# Altium schematic symbol library WEST_Schematic_Library.SchLib: 53 symbols (part 2 of 3)
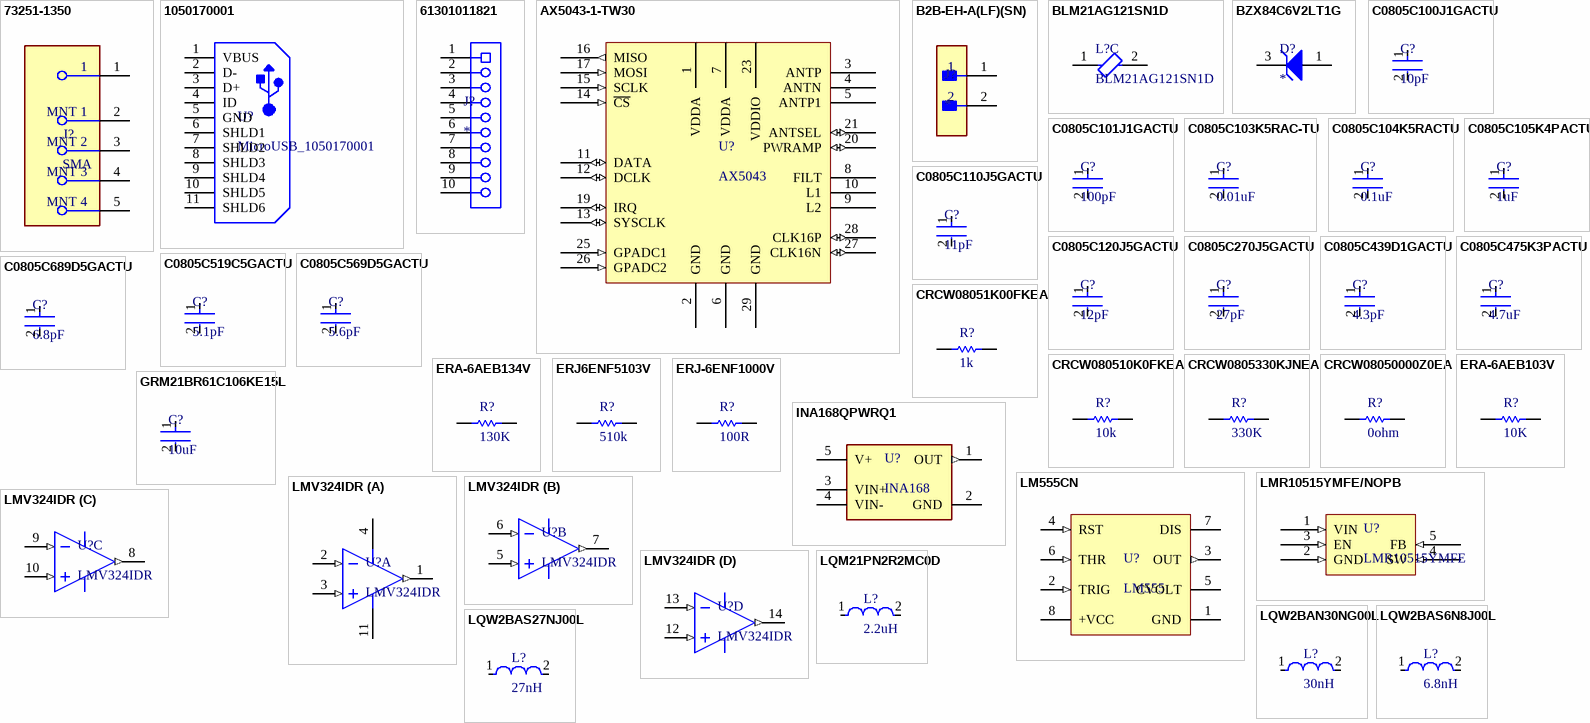
[diagram p2: symbols 73251-1350 to LQW2BAS27NJ00L]

## CRCW080510K0FKEA
designator R?, comment 10k
Res Thick Film 0805 10K Ohm 1% 1/8W ±100ppm/°C Molded SMD Paper T/R; Manufacturer: Vishay; Manufacturer Part Number: CRCW080510K0FKEA; Resistance: 10kR; Power Rating: 125mW; Voltage Rating: 150V; Supplier 1: Digi-Key; RoHS: Yes; Category: Chip SMD Resistors; Pricing 1: 1=0.10000, 10=0.06700, 100=0.02710, 1000=0.01219, 2500=0.01058 (USD); Case/Package: 0805; Case Code (Imperial): 0805; Case Code (Metric): 2012; Contact Plating: Tin; Size Code: 0805; Weight: 0.000194oz; Min Operating Temperature: -55°C; Max Operating Temperature: 155°C; Tolerance: 1%; Packaging: Tape and Reel; Resistor Type: Thick Film; Temperature Coefficient: 100ppm/°C; Termination: SMD/SMT; Series: CRCW; Max Power Dissipation: 125mW; Number of Terminations: 2; Resistance Tolerance: 1%; Voltage Rating (DC): 150V; Package Quantity: 5000; Technology: THICK FILM; Features: Automotive AEC-Q200; Construction: Rectangular; Length: 2mm; Width: 1.25mm; Height: 0.45mm; Depth: 1.25mm; Radiation Hardening: No; RoHS Compliant: Yes; REACH SVHC: Unknown; Military Standard: Not; Lead Free: Lead Free; ComponentLink1URL: https://datasheet.ciiva.com/11808/0900766b80d98b26-11808216.pdf?src-supplier=RSComponents; ComponentLink1Description: https://datasheet.ciiva.com/11808/0900766b80d98b26-11808216.pdf?src-supplier=RSComponents; ComponentLink2URL: https://datasheet.ciiva.com/46394/1720486-46394381.pdf?src-supplier=Element14; ComponentLink2Description: https://datasheet.ciiva.com/46394/1720486-46394381.pdf?src-supplier=Element14; ComponentLink3URL: https://datasheet.ciiva.com/16719/70201119-16719082.pdf?src-supplier=Allied+Electronics; ComponentLink3Description: https://datasheet.ciiva.com/16719/70201119-16719082.pdf?src-supplier=Allied+Electronics; ComponentLink4URL: https://datasheet.ciiva.com/16755/70201119-16755389.pdf?src-supplier=Allied+Electronics; ComponentLink4Description: https://datasheet.ciiva.com/16755/70201119-16755389.pdf?src-supplier=Allied+Electronics; ComponentLink5URL: https://datasheet.ciiva.com/5547/dcrcwe3-109170-5547559.pdf?src-supplier=Mouser; ComponentLink5Description: https://datasheet.ciiva.com/5547/dcrcwe3-109170-5547559.pdf?src-supplier=Mouser; ComponentLink6URL: https://datasheet.ciiva.com/8337/dcrcwe3-8337773.pdf?src-supplier=Avnet; ComponentLink6Description: https://datasheet.ciiva.com/8337/dcrcwe3-8337773.pdf?src-supplier=Avnet; ComponentLink7URL: https://datasheet.ciiva.com/16199/dcrcwe3-16199086.pdf?src-supplier=Future+Electronics; ComponentLink7Description: https://datasheet.ciiva.com/16199/dcrcwe3-16199086.pdf?src-supplier=Future+Electronics; ComponentLink8URL: https://datasheet.ciiva.com/8337/dcrcwe3-8337774.pdf?src-supplier=Avnet; ComponentLink8Description: https://datasheet.ciiva.com/8337/dcrcwe3-8337774.pdf?src-supplier=Avnet; Supplier Part Number 1: 541-10.0KCDKR-ND
footprint FP-C0805C-DN-IPC_A
pins: 1, 2

## CRCW0805330KJNEA
designator R?, comment 330K
Res Thick Film 0805 330K Ohm 5% 1/8W ±200ppm/°C Molded SMD SMD Paper T/R; Manufacturer: Vishay Dale; Manufacturer Part Number: CRCW0805330KJNEA; Voltage Rating: 150V; Resistance: 330kR; Power Rating: 125mW; Supplier 1: Digi-Key; RoHS: Yes; Category: Chip SMD Resistors; Pricing 1: 1=0.10000, 10=0.05000, 100=0.02040, 1000=0.00914, 2500=0.00794 (USD); Case/Package: 0805; Case Code (Imperial): 0805; Case Code (Metric): 2012; Contact Plating: Tin; Weight: 0.000194oz; Size Code: 0805; Min Operating Temperature: -55°C; Max Operating Temperature: 155°C; Packaging: Tape and Reel; Tolerance: 5%; Package Quantity: 1; Termination: SMD/SMT; Series: CRCW; Construction: Rectangular; Resistor Type: Thick Film; Number of Terminations: 2; Max Power Dissipation: 125mW; Temperature Coefficient: 200ppm/°C; Voltage Rating (DC): 150V; Resistance Tolerance: 5%; Features: Automotive AEC-Q200; Technology: THICK FILM; Length: 2mm; Width: 1.25mm; Height: 0.02inch; Depth: 1.25mm; Radiation Hardening: No; REACH SVHC: Unknown; Military Standard: Not; RoHS Compliant: Yes; Lead Free: Lead Free; ComponentLink1URL: https://datasheet.ciiva.com/2493/dcrcwe3-2493836.pdf?src-supplier=Digi-Key; ComponentLink1Description: https://datasheet.ciiva.com/2493/dcrcwe3-2493836.pdf?src-supplier=Digi-Key; ComponentLink2URL: https://datasheet.ciiva.com/2493/dcrcwe3-2493837.pdf?src-supplier=Digi-Key; ComponentLink2Description: https://datasheet.ciiva.com/2493/dcrcwe3-2493837.pdf?src-supplier=Digi-Key; ComponentLink3URL: https://datasheet.ciiva.com/5561/dcrcwe3-109170-5561991.pdf?src-supplier=Mouser; ComponentLink3Description: https://datasheet.ciiva.com/5561/dcrcwe3-109170-5561991.pdf?src-supplier=Mouser; ComponentLink4URL: https://datasheet.ciiva.com/2493/dcrcwe3-2493835.pdf?src-supplier=Digi-Key; ComponentLink4Description: https://datasheet.ciiva.com/2493/dcrcwe3-2493835.pdf?src-supplier=Digi-Key; ComponentLink5URL: https://datasheet.ciiva.com/46391/1807946-46391932.pdf?src-supplier=Element14; ComponentLink5Description: https://datasheet.ciiva.com/46391/1807946-46391932.pdf?src-supplier=Element14; ComponentLink6URL: https://datasheet.ciiva.com/16213/dcrcwe3-16213979.pdf?src-supplier=Future+Electronics; ComponentLink6Description: https://datasheet.ciiva.com/16213/dcrcwe3-16213979.pdf?src-supplier=Future+Electronics; ComponentLink7URL: https://datasheet.ciiva.com/16778/70201119-16778586.pdf?src-supplier=Allied+Electronics; ComponentLink7Description: https://datasheet.ciiva.com/16778/70201119-16778586.pdf?src-supplier=Allied+Electronics; Supplier Part Number 1: 541-330KACT-ND; Stock 1: 1
footprint FP-C0805C-DN-IPC_A
pins: 1, 2

## CRCW08050000Z0EA
designator R?, comment 0ohm
CRCW Series 0805 0.125 W 0 Ohm Jumper Surface Mount Thick Film Chip Resistor; Manufacturer: Vishay; Manufacturer Part Number: CRCW08050000Z0EA; Power Rating: 125mW; Temperature Coefficient: 100ppm/°C; Voltage Rating: 150V; Tolerance: 1%; Resistance: 0mR; Supplier 1: Digi-Key; RoHS: Yes; Category: Chip SMD Resistors; Pricing 1: 1=0.10000, 10=0.04400, 25=0.03160, 50=0.02400, 100=0.01770, 250=0.01352, 500=0.01080, 1000=0.00795 (USD); Case/Package: 0805; Case Code (Imperial): 0805; Case Code (Metric): 2012; Contact Plating: Tin,Lead; Size Code: 0805; Weight: 0.000194oz; Min Operating Temperature: -55°C; Max Operating Temperature: 155°C; Packaging: Tape and Reel; Resistor Type: Thick Film; Series: CRCW; Termination: SMD/SMT; Package Quantity: 1; Number of Terminations: 2; Max Power Dissipation: 125mW; Construction: Rectangular; Voltage Rating (DC): 150V; Features: Automotive AEC-Q200; Technology: THICK FILM; Resistance Tolerance: 1%; Length: 2mm; Width: 1.25mm; Height: 0.45mm; Depth: 1.25mm; Radiation Hardening: No; RoHS Compliant: Yes; REACH SVHC: Unknown; Lead Free: Lead Free; Military Standard: Not; ComponentLink1URL: https://datasheet.ciiva.com/11811/0900766b80d98b26-11811304.pdf?src-supplier=RSComponents; ComponentLink1Description: https://datasheet.ciiva.com/11811/0900766b80d98b26-11811304.pdf?src-supplier=RSComponents; ComponentLink2URL: https://datasheet.ciiva.com/2463/dcrcwe3-2463037.pdf?src-supplier=Digi-Key; ComponentLink2Description: https://datasheet.ciiva.com/2463/dcrcwe3-2463037.pdf?src-supplier=Digi-Key; ComponentLink3URL: https://datasheet.ciiva.com/2463/dcrcwe3-2463038.pdf?src-supplier=Digi-Key; ComponentLink3Description: https://datasheet.ciiva.com/2463/dcrcwe3-2463038.pdf?src-supplier=Digi-Key; ComponentLink4URL: https://datasheet.ciiva.com/2463/dcrcwe3-2463039.pdf?src-supplier=Digi-Key; ComponentLink4Description: https://datasheet.ciiva.com/2463/dcrcwe3-2463039.pdf?src-supplier=Digi-Key; ComponentLink5URL: https://datasheet.ciiva.com/5543/dcrcwe3-109170-5543096.pdf?src-supplier=Mouser; ComponentLink5Description: https://datasheet.ciiva.com/5543/dcrcwe3-109170-5543096.pdf?src-supplier=Mouser; ComponentLink6URL: https://datasheet.ciiva.com/16389/dcrcwe3-16389338.pdf?src-supplier=Future+Electronics; ComponentLink6Description: https://datasheet.ciiva.com/16389/dcrcwe3-16389338.pdf?src-supplier=Future+Electronics; ComponentLink7URL: https://datasheet.ciiva.com/7841/1697337-7841629.pdf?src-supplier=Element14; ComponentLink7Description: https://datasheet.ciiva.com/7841/1697337-7841629.pdf?src-supplier=Element14; ComponentLink8URL: https://datasheet.ciiva.com/7841/1720486-7841839.pdf?src-supplier=Element14; ComponentLink8Description: https://datasheet.ciiva.com/7841/1720486-7841839.pdf?src-supplier=Element14; ComponentLink9URL: https://datasheet.ciiva.com/26314/fld-crcw-e3-data-en-26314630.pdf?src-supplier=Distrelec; ComponentLink9Description: https://datasheet.ciiva.com/26314/fld-crcw-e3-data-en-26314630.pdf?src-supplier=Distrelec; ComponentLink10URL: https://datasheet.ciiva.com/16719/70201119-16719706.pdf?src-supplier=Allied+Electronics; ComponentLink10Description: https://datasheet.ciiva.com/16719/70201119-16719706.pdf?src-supplier=Allied+Electronics; Supplier Part Number 1: 541-0.0ADKR-ND
footprint FP-C0805C-DN-IPC_A
pins: 1, 2

## ERA-6AEB103V
designator R?, comment 10K
高精度、低温漂贴片电阻 10KΩ ±0.1% 1/8W ±25ppm/℃ 0805; Manufacturer: Panasonic; Manufacturer Part Number: ERA-6AEB103V; Voltage Rating: 100V; Resistance: 10kR; Power Rating: 125mW; Temperature Coefficient: 25ppm/°C; Supplier 1: Digi-Key; RoHS: Yes; Category: Chip SMD Resistors; Mount: Surface Mount; Case/Package: 0805; Number of Pins: 2; Case Code (Metric): 2012; Case Code (Imperial): 0805; Contact Plating: Tin; Min Operating Temperature: -55°C; Max Operating Temperature: 155°C; Packaging: Tape and Reel; Tolerance: 0.1%; Resistor Type: Thin Film; Voltage Rating (DC): 100V; Package Quantity: 5000; Termination: SMD/SMT; Number of Terminations: 2; Max Power Dissipation: 125mW; Series: ERA-6A; Construction: Rectangular; Resistance Tolerance: 0.1%; Technology: THIN FILM; Working Voltage: 100V; Length: 2mm; Width: 1.25mm; Height: 0.5mm; Depth: 1.25mm; Radiation Hardening: No; REACH SVHC: No SVHC; RoHS Compliant: Yes; Military Standard: Not; Lead Free: Lead Free; ComponentLink1URL: https://datasheet.ciiva.com/11810/0900766b80beefcc-11810466.pdf?src-supplier=RSComponents; ComponentLink1Description: https://datasheet.ciiva.com/11810/0900766b80beefcc-11810466.pdf?src-supplier=RSComponents; ComponentLink2URL: https://datasheet.ciiva.com/26335/453339-da-01-en-widerstand-0805-era-26335701.pdf?src-supplier=Conrad; ComponentLink2Description: https://datasheet.ciiva.com/26335/453339-da-01-en-widerstand-0805-era-26335701.pdf?src-supplier=Conrad; ComponentLink3URL: https://datasheet.ciiva.com/43455/485442-43455269.pdf?src-supplier=Farnell; ComponentLink3Description: https://datasheet.ciiva.com/43455/485442-43455269.pdf?src-supplier=Farnell; ComponentLink4URL: https://datasheet.ciiva.com/7830/485442-7830639.pdf?src-supplier=Element14; ComponentLink4Description: https://datasheet.ciiva.com/7830/485442-7830639.pdf?src-supplier=Element14; ComponentLink5URL: https://datasheet.ciiva.com/7830/485442-7830638.pdf?src-supplier=Element14; ComponentLink5Description: https://datasheet.ciiva.com/7830/485442-7830638.pdf?src-supplier=Element14; ComponentLink6URL: https://datasheet.ciiva.com/48529/era-eng-tds-48529783.pdf?src-supplier=Distrelec; ComponentLink6Description: https://datasheet.ciiva.com/48529/era-eng-tds-48529783.pdf?src-supplier=Distrelec; ComponentLink7URL: https://datasheet.ciiva.com/7830/485442-7830637.pdf?src-supplier=Element14; ComponentLink7Description: https://datasheet.ciiva.com/7830/485442-7830637.pdf?src-supplier=Element14; ComponentLink8URL: https://datasheet.ciiva.com/22785/485442-22785935.pdf?src-supplier=Farnell; ComponentLink8Description: https://datasheet.ciiva.com/22785/485442-22785935.pdf?src-supplier=Farnell; ComponentLink9URL: https://datasheet.ciiva.com/28513/485442-28513862.pdf?src-supplier=Element14; ComponentLink9Description: https://datasheet.ciiva.com/28513/485442-28513862.pdf?src-supplier=Element14; ComponentLink10URL: https://datasheet.ciiva.com/24072/aoa0000ce26-197354-24072839.pdf?src-supplier=Mouser; ComponentLink10Description: https://datasheet.ciiva.com/24072/aoa0000ce26-197354-24072839.pdf?src-supplier=Mouser; ComponentLink11URL: https://datasheet.ciiva.com/16776/70068849-16776328.pdf?src-supplier=Allied+Electronics; ComponentLink11Description: https://datasheet.ciiva.com/16776/70068849-16776328.pdf?src-supplier=Allied+Electronics; ComponentLink12URL: https://datasheet.ciiva.com/16762/70068849-16762828.pdf?src-supplier=Allied+Electronics; ComponentLink12Description: https://datasheet.ciiva.com/16762/70068849-16762828.pdf?src-supplier=Allied+Electronics; ComponentLink13URL: https://datasheet.ciiva.com/16200/aoa0000ce26-16200216.pdf?src-supplier=Future+Electronics; ComponentLink13Description: https://datasheet.ciiva.com/16200/aoa0000ce26-16200216.pdf?src-supplier=Future+Electronics; ComponentLink14URL: https://datasheet.ciiva.com/48531/aoa0000ce26-48531095.pdf?src-supplier=Avnet; ComponentLink14Description: https://datasheet.ciiva.com/48531/aoa0000ce26-48531095.pdf?src-supplier=Avnet; Supplier Part Number 1: P10KDACT-ND
footprint FP-C0805C-DN-IPC_A
pins: 1, 2

## ERA-6AEB134V
designator R?, comment 130K
Res Thin Film 0805 130K Ohm 0.1% 1/8W ±25ppm/°C Molded SMD SMD Punched Carrier T/R; Manufacturer: Panasonic; Manufacturer Part Number: ERA-6AEB134V; Resistance: 130kR; Power Rating: 125mW; Voltage Rating: 100V; Supplier 1: Digi-Key; RoHS: Yes; Category: Chip SMD Resistors; Pricing 1: 1=0.36000, 10=0.30100, 100=0.11770, 1000=0.04927, 2500=0.04516 (USD); Mount: Surface Mount; Case/Package: 0805; Number of Pins: 2; Case Code (Metric): 2012; Case Code (Imperial): 0805; Contact Plating: Tin; Min Operating Temperature: -55°C; Max Operating Temperature: 155°C; Tolerance: 0.1%; Packaging: Tape and Reel; Package Quantity: 1; Resistor Type: Thin Film; Number of Terminations: 2; Temperature Coefficient: 25ppm/°C; Termination: Solder; Max Power Dissipation: 125mW; Series: ERA-6A; Resistance Tolerance: 0.1%; Construction: Rectangular; Voltage Rating (DC): 100V; Features: Automotive AEC-Q200; Technology: THIN FILM; Length: 2mm; Width: 1.25mm; Height: 0.5mm; Depth: 1.25mm; Radiation Hardening: No; REACH SVHC: No SVHC; Military Standard: Not; RoHS Compliant: Yes; Lead Free: Lead Free; ComponentLink1URL: https://datasheet.ciiva.com/26335/453691-da-01-en-widerstand-0805-era-26335728.pdf?src-supplier=Conrad; ComponentLink1Description: https://datasheet.ciiva.com/26335/453691-da-01-en-widerstand-0805-era-26335728.pdf?src-supplier=Conrad; ComponentLink2URL: https://datasheet.ciiva.com/5915/485442-5915198.pdf?src-supplier=Farnell; ComponentLink2Description: https://datasheet.ciiva.com/5915/485442-5915198.pdf?src-supplier=Farnell; ComponentLink3URL: https://datasheet.ciiva.com/46376/485442-46376974.pdf?src-supplier=Element14; ComponentLink3Description: https://datasheet.ciiva.com/46376/485442-46376974.pdf?src-supplier=Element14; ComponentLink4URL: https://datasheet.ciiva.com/7795/485442-7795115.pdf?src-supplier=Element14; ComponentLink4Description: https://datasheet.ciiva.com/7795/485442-7795115.pdf?src-supplier=Element14; ComponentLink5URL: https://datasheet.ciiva.com/22739/485442-22739481.pdf?src-supplier=Element14; ComponentLink5Description: https://datasheet.ciiva.com/22739/485442-22739481.pdf?src-supplier=Element14; ComponentLink6URL: https://datasheet.ciiva.com/24023/aoa0000ce26-197354-24023974.pdf?src-supplier=Mouser; ComponentLink6Description: https://datasheet.ciiva.com/24023/aoa0000ce26-197354-24023974.pdf?src-supplier=Mouser; ComponentLink7URL: https://datasheet.ciiva.com/9185/aoa0000ce26-9185919.pdf?src-supplier=Avnet; ComponentLink7Description: https://datasheet.ciiva.com/9185/aoa0000ce26-9185919.pdf?src-supplier=Avnet; ComponentLink8URL: https://datasheet.ciiva.com/30125/54aoa0000ce26-30125359.pdf?src-supplier=Onlinecomponents.com; ComponentLink8Description: https://datasheet.ciiva.com/30125/54aoa0000ce26-30125359.pdf?src-supplier=Onlinecomponents.com; Supplier Part Number 1: P130KDACT-ND; Stock 1: 57925
footprint FP-C0805C-DN-IPC_A
pins: 1, 2

## ERJ6ENF5103V
designator R?, comment 510k
贴片电阻 510KΩ ±1% 1/8W ±100ppm/℃ 0805; Manufacturer: Panasonic; Manufacturer Part Number: ERJ6ENF5103V; Resistance: 510kR; Power Rating: 125mW; Voltage Rating: 150V; Temperature Coefficient: 100ppm/°C; Supplier 1: Digi-Key; RoHS: Yes; Category: Chip SMD Resistors; Pricing 1: 1=0.10000, 10=0.08900, 100=0.03440, 1000=0.01512, 2500=0.01306 (USD); Mount: Surface Mount; Case/Package: 0805; Case Code (Metric): 2012; Case Code (Imperial): 0805; Contact Plating: Tin; Size Code: 0805; Min Operating Temperature: -55°C; Max Operating Temperature: 155°C; Tolerance: 1%; Packaging: Tape and Reel; Package Quantity: 1; Resistor Type: Thick Film; Number of Terminations: 2; Max Power Dissipation: 125mW; Series: ERJ; Construction: Rectangular; Termination: SMD/SMT; Features: Automotive AEC-Q200; Voltage Rating (DC): 150V; Resistance Tolerance: 1%; Technology: THICK FILM; Length: 2mm; Width: 0.049inch; Height: 0.6mm; Depth: 1.25mm; Radiation Hardening: No; Military Standard: Not; RoHS Compliant: Yes; REACH SVHC: No SVHC; Lead Free: Lead Free; ComponentLink1URL: https://datasheet.ciiva.com/11821/0900766b80f80784-11821669.pdf?src-supplier=RSComponents; ComponentLink1Description: https://datasheet.ciiva.com/11821/0900766b80f80784-11821669.pdf?src-supplier=RSComponents; ComponentLink2URL: https://datasheet.ciiva.com/46375/1678782-46375866.pdf?src-supplier=Element14; ComponentLink2Description: https://datasheet.ciiva.com/46375/1678782-46375866.pdf?src-supplier=Element14; ComponentLink3URL: https://datasheet.ciiva.com/22762/1678782-22762871.pdf?src-supplier=Farnell; ComponentLink3Description: https://datasheet.ciiva.com/22762/1678782-22762871.pdf?src-supplier=Farnell; ComponentLink4URL: https://datasheet.ciiva.com/46375/1678782-46375865.pdf?src-supplier=Element14; ComponentLink4Description: https://datasheet.ciiva.com/46375/1678782-46375865.pdf?src-supplier=Element14; ComponentLink5URL: https://datasheet.ciiva.com/24027/aoa0000ce2-24027049.pdf?src-supplier=Mouser; ComponentLink5Description: https://datasheet.ciiva.com/24027/aoa0000ce2-24027049.pdf?src-supplier=Mouser; ComponentLink6URL: https://datasheet.ciiva.com/9181/aoa0000ce2-9181533.pdf?src-supplier=Avnet; ComponentLink6Description: https://datasheet.ciiva.com/9181/aoa0000ce2-9181533.pdf?src-supplier=Avnet; ComponentLink7URL: https://datasheet.ciiva.com/30195/aoa0000ce2-30195599.pdf?src-supplier=Onlinecomponents.com; ComponentLink7Description: https://datasheet.ciiva.com/30195/aoa0000ce2-30195599.pdf?src-supplier=Onlinecomponents.com; Supplier Part Number 1: P510KCCT-ND; Stock 1: 22956
footprint FP-C0805C-DN-IPC_A
pins: 1, 2

## ERJ-6ENF1000V
designator R?, comment 100R
贴片电阻 100Ω ±1% 1/8W ±100ppm/℃ 0805; Manufacturer: Panasonic; Manufacturer Part Number: ERJ-6ENF1000V; Temperature Coefficient: 100ppm/°C; Max Power Dissipation: 125mW; Voltage Rating: 150V; Supplier 1: Digi-Key; RoHS: Yes; Category: Chip SMD Resistors; Mount: Surface Mount; Case/Package: 0805; Number of Pins: 2; Case Code (Imperial): 0805; Case Code (Metric): 2012; Contact Plating: Tin; Size Code: 0805; Min Operating Temperature: -55°C; Max Operating Temperature: 155°C; Packaging: Tape and Reel; Resistance: 100R; Tolerance: 1%; Resistor Type: Thick Film; Number of Terminations: 2; Series: ERJ; Package Quantity: 1; Features: Automotive AEC-Q200; Termination: SMD/SMT; Construction: Rectangular; Power Rating: 125mW; Voltage Rating (DC): 150V; Resistance Tolerance: 1%; Technology: THICK FILM; Length: 2mm; Width: 1.2mm; Height: 0.6mm; Depth: 1.25mm; Radiation Hardening: No; RoHS Compliant: Yes; Military Standard: Not; Lead Free: Lead Free; REACH SVHC: No SVHC; ComponentLink1URL: https://datasheet.ciiva.com/11808/0900766b80f80784-11808206.pdf?src-supplier=RSComponents; ComponentLink1Description: https://datasheet.ciiva.com/11808/0900766b80f80784-11808206.pdf?src-supplier=RSComponents; ComponentLink2URL: https://datasheet.ciiva.com/7830/426256-7830744.pdf?src-supplier=Element14; ComponentLink2Description: https://datasheet.ciiva.com/7830/426256-7830744.pdf?src-supplier=Element14; ComponentLink3URL: https://datasheet.ciiva.com/7830/1678782-7830986.pdf?src-supplier=Element14; ComponentLink3Description: https://datasheet.ciiva.com/7830/1678782-7830986.pdf?src-supplier=Element14; ComponentLink4URL: https://datasheet.ciiva.com/46419/1678782-46419878.pdf?src-supplier=Element14; ComponentLink4Description: https://datasheet.ciiva.com/46419/1678782-46419878.pdf?src-supplier=Element14; ComponentLink5URL: https://datasheet.ciiva.com/16765/70260748-16765594.pdf?src-supplier=Allied+Electronics; ComponentLink5Description: https://datasheet.ciiva.com/16765/70260748-16765594.pdf?src-supplier=Allied+Electronics; ComponentLink6URL: https://datasheet.ciiva.com/9186/aoa0000ce2-9186686.pdf?src-supplier=Avnet; ComponentLink6Description: https://datasheet.ciiva.com/9186/aoa0000ce2-9186686.pdf?src-supplier=Avnet; ComponentLink7URL: https://datasheet.ciiva.com/30154/aoa0000ce2-30154938.pdf?src-supplier=Onlinecomponents.com; ComponentLink7Description: https://datasheet.ciiva.com/30154/aoa0000ce2-30154938.pdf?src-supplier=Onlinecomponents.com; Supplier Part Number 1: P100CCT-ND
footprint FP-C0805C-DN-IPC_A
pins: 1, 2

## GRM21BR61C106KE15L
designator C?, comment 10uF
贴片电容（MLCC） 10μF ±10% 16V X5R 0805; Manufacturer: Murata; Manufacturer Part Number: GRM21BR61C106KE15L; Material: Ceramic; Supplier 1: Digi-Key; RoHS: Yes; Category: Ceramic Capacitors; Pricing 1: 1=0.18000, 10=0.12400, 50=0.07420, 100=0.06270, 500=0.04292, 1000=0.03798 (USD); Mount: Surface Mount; Case/Package: 0805; Case Code (Imperial): 0805; Case Code (Metric): 2012; Min Operating Temperature: -55°C; Max Operating Temperature: 85°C; Packaging: Tape and Reel; Capacitance: 10uF; Tolerance: 10%; Voltage Rating: 16V; Voltage Rating (DC): 16V; Package Quantity: 1; Dielectric: X5R; Termination: SMD/SMT; Voltage: 16V; Series: GRM; Construction: Flat; Length: 2mm; Width: 1.25mm; Height: 1.25mm; Thickness: 0.053inch; Depth: 1.25mm; Radiation Hardening: No; REACH SVHC: No SVHC; RoHS Compliant: Yes; Lead Free: Lead Free; ComponentLink1URL: https://datasheet.ciiva.com/7719/1747468-7719090.pdf?src-supplier=Element14; ComponentLink1Description: https://datasheet.ciiva.com/7719/1747468-7719090.pdf?src-supplier=Element14; ComponentLink2URL: https://datasheet.ciiva.com/23628/460993-23628598.pdf?src-supplier=Newark; ComponentLink2Description: https://datasheet.ciiva.com/23628/460993-23628598.pdf?src-supplier=Newark; ComponentLink3URL: https://datasheet.ciiva.com/2989/product-2989696.pdf?src-supplier=Avnet; ComponentLink3Description: https://datasheet.ciiva.com/2989/product-2989696.pdf?src-supplier=Avnet; ComponentLink4URL: https://datasheet.ciiva.com/3777/1956grm21br61c106ke1523-3777137.pdf?src-supplier=Arrow+Electronics; ComponentLink4Description: https://datasheet.ciiva.com/3777/1956grm21br61c106ke1523-3777137.pdf?src-supplier=Arrow+Electronics; ComponentLink5URL: https://datasheet.ciiva.com/29202/450891-da-01-de-vs-chip-kond-0805-10-0-uf-10pr-16-0v-x5r-29202696.pdf?src-supplier=Conrad; ComponentLink5Description: https://datasheet.ciiva.com/29202/450891-da-01-de-vs-chip-kond-0805-10-0-uf-10pr-16-0v-x5r-29202696.pdf?src-supplier=Conrad; ComponentLink6URL: https://datasheet.ciiva.com/29199/454607-da-01-en-vs-kondensator-0805-29199611.pdf?src-supplier=Conrad; ComponentLink6Description: https://datasheet.ciiva.com/29199/454607-da-01-en-vs-kondensator-0805-29199611.pdf?src-supplier=Conrad; ComponentLink7URL: https://datasheet.ciiva.com/137/partnumbering-e-01-137918.pdf?src-supplier=Digi-Key; ComponentLink7Description: https://datasheet.ciiva.com/137/partnumbering-e-01-137918.pdf?src-supplier=Digi-Key; ComponentLink8URL: https://datasheet.ciiva.com/137/partnumbering-e-01-137917.pdf?src-supplier=Digi-Key; ComponentLink8Description: https://datasheet.ciiva.com/137/partnumbering-e-01-137917.pdf?src-supplier=Digi-Key; ComponentLink9URL: https://datasheet.ciiva.com/137/partnumbering-e-01-137919.pdf?src-supplier=Digi-Key; ComponentLink9Description: https://datasheet.ciiva.com/137/partnumbering-e-01-137919.pdf?src-supplier=Digi-Key; ComponentLink10URL: https://datasheet.ciiva.com/2989/product-2989697.pdf?src-supplier=Avnet; ComponentLink10Description: https://datasheet.ciiva.com/2989/product-2989697.pdf?src-supplier=Avnet; Supplier Part Number 1: 490-3886-1-ND; Stock 1: 9508002
footprint FP-C0805C-DN-IPC_A
pins: 1, 2

## INA168QPWRQ1
designator U?, comment INA168
AEC-Q100, 2.7 to 60V, 800kHz Variable gain current sense amplifier 8-TSSOP -40 to 125; Manufacturer: Texas Instruments; Manufacturer Part Number: INA168QPWRQ1; Min Supply Voltage: 2.7V; Nominal Supply Current: 45uA; Common Mode Rejection Ratio: 100dB; Number of Channels: 1; Input Offset Voltage (Vos): 2mV; Input Bias Current: 10nA; Accuracy: 0.5%; Supplier 1: Digi-Key; RoHS: Yes; Category: Amplifiers - Op Amps, Buffer, Instrumentation; Pricing 1: 1=3.24000, 10=2.91100, 25=2.75240, 100=2.38530, 250=2.26300, 500=2.03058, 1000=2.01950 (USD); Mount: Surface Mount; Case/Package: TSSOP; Number of Pins: 8; Weight: 0.001217oz; Min Operating Temperature: -40°C; Max Operating Temperature: 125°C; Max Supply Voltage: 60V; Packaging: Tape and Reel; Package Quantity: 1; Number of Elements: 1; Series: -; Supply Current: 45uA; Radiation Hardening: No; Lead Free: Lead Free; RoHS Compliant: Yes; ComponentLink1URL: https://datasheet.ciiva.com/15128/getdatasheetpartid-194017-15128474.pdf?src-supplier=Verical; ComponentLink1Description: https://datasheet.ciiva.com/15128/getdatasheetpartid-194017-15128474.pdf?src-supplier=Verical; ComponentLink2URL: https://datasheet.ciiva.com/2975/ina168-q1-2975797.pdf?src-supplier=Avnet; ComponentLink2Description: https://datasheet.ciiva.com/2975/ina168-q1-2975797.pdf?src-supplier=Avnet; ComponentLink3URL: https://datasheet.ciiva.com/1939/ina138-q1-1939748.pdf?src-supplier=Digi-Key; ComponentLink3Description: https://datasheet.ciiva.com/1939/ina138-q1-1939748.pdf?src-supplier=Digi-Key; ComponentLink4URL: https://datasheet.ciiva.com/1939/ina138-q1-1939747.pdf?src-supplier=Digi-Key; ComponentLink4Description: https://datasheet.ciiva.com/1939/ina138-q1-1939747.pdf?src-supplier=Digi-Key; ComponentLink5URL: https://datasheet.ciiva.com/1939/ina138-q1-1939749.pdf?src-supplier=Digi-Key; ComponentLink5Description: https://datasheet.ciiva.com/1939/ina138-q1-1939749.pdf?src-supplier=Digi-Key; ComponentLink6URL: https://datasheet.ciiva.com/2976/ina168-q1-2976124.pdf?src-supplier=Avnet; ComponentLink6Description: https://datasheet.ciiva.com/2976/ina168-q1-2976124.pdf?src-supplier=Avnet; Supplier Part Number 1: 296-17201-1-ND; Stock 1: 168
footprint FP-DBV0005A-IPC_A
pins: 1 OUT (out), 2 GND (power), 3 VIN+ (power), 4 VIN- (power), 5 V+ (power)

## LM555CN
designator U?, comment LM555
LM555 Series 16 V 7.5 mA Monolithic General Purpose Single Timer - DIP-8; Manufacturer: TI National Semiconductor; Manufacturer Part Number: LM555CN; Frequency: 100kHz; Low Level Output Current: 200mA; High Level Output Current: -200mA; Min Supply Voltage: 4.5V; Max Supply Voltage: 16V; Number of Timers/Counters: 1; Quiescent Current: 3mA; Operating Supply Current: 10mA; Max Power Dissipation: 1.18W; Current Rating: 15A; Supplier 1: Digi-Key; RoHS: No; Category: Timers and Oscillators; Mount: Through Hole; Case/Package: PDIP; Number of Pins: 8; Min Operating Temperature: 0°C; Max Operating Temperature: 70°C; Packaging: Rail/Tube; Package Quantity: 40; Nominal Supply Current: 3mA; Power Dissipation: 1.18W; Series: LM555; Supply Current: 3mA; Number of Channels: 1; Output Current: 200mA; Radiation Hardening: No; Lead Free: Lead Free; RoHS Compliant: No; REACH SVHC: No SVHC; ComponentLink1URL: https://datasheet.ciiva.com/1139/55410-1139386.pdf?src-supplier=Element14; ComponentLink1Description: https://datasheet.ciiva.com/1139/55410-1139386.pdf?src-supplier=Element14; ComponentLink2URL: https://datasheet.ciiva.com/14274/lm555-14274455.pdf?src-supplier=Avnet; ComponentLink2Description: https://datasheet.ciiva.com/14274/lm555-14274455.pdf?src-supplier=Avnet; ComponentLink3URL: https://datasheet.ciiva.com/15152/getdatasheetpartid-647179-15152582.pdf?src-supplier=Verical; ComponentLink3Description: https://datasheet.ciiva.com/15152/getdatasheetpartid-647179-15152582.pdf?src-supplier=Verical; ComponentLink4URL: https://datasheet.ciiva.com/6667/lm555-6667629.pdf?src-supplier=Digi-Key; ComponentLink4Description: https://datasheet.ciiva.com/6667/lm555-6667629.pdf?src-supplier=Digi-Key; Supplier Part Number 1: LM555CN-ND
footprint N08E (DIP, 8-Pin, Row Spacing 7.62 mm, Pitch 2.54 mm)
pins: 1 GND (power), 2 TRIG (in), 3 OUT (out), 4 RST (in), 5 CVOLT, 6 THR (in), 7 DIS (oc), 8 +VCC (power)

## LMR10515YMFE/NOPB
designator U?, comment LMR10515YMFE
5.5Vin, 1.5A Step-Down Voltage Regulator in SOT-23 and LLP 5-SOT-23 -40 to 125; Manufacturer: TI National Semiconductor; Manufacturer Part Number: LMR10515YMFE/NOPB; Number of Outputs: 1; Output Voltage: 4.5V; Min Input Voltage: 3V; Max Input Voltage: 5.5V; Switching Frequency: 3MHz; Min Output Voltage: 600mV; Quiescent Current: 3.3mA; Output Type: Adjustable; Output Configuration: Positive; Synchronous Rectifier: No; Efficiency: 93%; Supplier 1: Digi-Key; RoHS: Yes; Category: Voltage Regulators - Switching; Pricing 1: 1=1.57000, 10=1.40400, 25=1.33280, 100=1.09470 (USD); Mount: Surface Mount; Case/Package: SOT-23-5; Number of Pins: 5; Contact Plating: Tin,Matte; Min Operating Temperature: -40°C; Max Operating Temperature: 125°C; Max Output Current: 1.5A; Output Current: 1.5A; Packaging: Tape and Reel; Package Quantity: 250; Max Output Voltage: 4.5V; Series: SIMPLE SWITCHER®; Length: 3.05mm; Width: 1.75mm; Height: 1.3mm; Radiation Hardening: No; REACH SVHC: No SVHC; Lead Free: Lead Free; RoHS Compliant: Yes; ComponentLink1URL: https://datasheet.ciiva.com/41458/001014244-da-01-en-ic-reg-bu-lmr10515ymfe-nopb-sot-23-5-tid-41458601.pdf?src-supplier=Conrad; ComponentLink1Description: https://datasheet.ciiva.com/41458/001014244-da-01-en-ic-reg-bu-lmr10515ymfe-nopb-sot-23-5-tid-41458601.pdf?src-supplier=Conrad; ComponentLink2URL: https://datasheet.ciiva.com/22669/1882168-22669494.pdf?src-supplier=Element14; ComponentLink2Description: https://datasheet.ciiva.com/22669/1882168-22669494.pdf?src-supplier=Element14; ComponentLink3URL: https://datasheet.ciiva.com/3230/lmr10515-3230063.pdf?src-supplier=Avnet; ComponentLink3Description: https://datasheet.ciiva.com/3230/lmr10515-3230063.pdf?src-supplier=Avnet; ComponentLink4URL: https://datasheet.ciiva.com/2029/lmr10515-2029543.pdf?src-supplier=Digi-Key; ComponentLink4Description: https://datasheet.ciiva.com/2029/lmr10515-2029543.pdf?src-supplier=Digi-Key; ComponentLink5URL: https://datasheet.ciiva.com/2029/lmr10515-2029544.pdf?src-supplier=Digi-Key; ComponentLink5Description: https://datasheet.ciiva.com/2029/lmr10515-2029544.pdf?src-supplier=Digi-Key; ComponentLink6URL: https://datasheet.ciiva.com/2029/lmr10515-2029542.pdf?src-supplier=Digi-Key; ComponentLink6Description: https://datasheet.ciiva.com/2029/lmr10515-2029542.pdf?src-supplier=Digi-Key; Supplier Part Number 1: LMR10515YMFE/NOPBCT-ND; Stock 1: 3772
footprint SOT95P245X145-5N (SOT23, 5-Leads, Body 2.96x2.45mm, Pitch 0.95mm, IPC Medium Density)
pins: 1 VIN (in), 2 GND (in), 3 EN (in), 4 SW (in), 5 FB (in)

## LMV324IDR
designator U?
IC OPAMP GP 1MHZ RRO 14SOIC; Manufacturer: Texas Instruments; Number of Channels: 4; Output Current: 160mA; Slew Rate: 1V/µs; Nominal Supply Current: 170uA; Common Mode Rejection Ratio: 50dB; Voltage Gain: 100dB; Input Bias Current: 250nA; Input Offset Voltage (Vos): 7mV; Operating Supply Current: 410uA; Max Supply Voltage: 5.5V; Min Supply Voltage: 2.7V; Supplier 1: Digi-Key; Manufacturer Part Number: LMV324IDR; RoHS: Yes; Category: Amplifiers - Op Amps, Buffer, Instrumentation; Pricing 1: 1=0.62000, 10=0.53300, 25=0.49720, 100=0.39770, 250=0.36932, 500=0.31248, 1000=0.24147 (USD); Mount: Surface Mount; Case/Package: SOIC; Number of Pins: 14; Contact Plating: Gold; Min Operating Temperature: -40°C; Max Operating Temperature: 125°C; Packaging: Tape and Reel; Number of Circuits: 4; Gain Bandwidth Product: 1MHz; Package Quantity: 1; Output Current per Channel: 160mA; Unity Gain Bandwidth Product: 1MHz; Bandwidth: 1MHz; Number of Elements: 4; Number of Amplifiers: 4; Power Supply Rejection Ratio (PSRR): 50dB; Length: 8.65mm; Width: 3.91mm; Height: 1.58mm; Radiation Hardening: No; Lead Free: Lead Free; RoHS Compliant: Yes; REACH SVHC: No SVHC; ComponentLink1URL: https://datasheet.ciiva.com/27050/903031-27050788.pdf?src-supplier=Jameco; ComponentLink1Description: https://datasheet.ciiva.com/27050/903031-27050788.pdf?src-supplier=Jameco; ComponentLink2URL: https://datasheet.ciiva.com/1803/lmv324-1803154.pdf?src-supplier=Digi-Key; ComponentLink2Description: https://datasheet.ciiva.com/1803/lmv324-1803154.pdf?src-supplier=Digi-Key; ComponentLink3URL: https://datasheet.ciiva.com/1803/lmv324-1803153.pdf?src-supplier=Digi-Key; ComponentLink3Description: https://datasheet.ciiva.com/1803/lmv324-1803153.pdf?src-supplier=Digi-Key; ComponentLink4URL: https://datasheet.ciiva.com/1803/lmv324-1803155.pdf?src-supplier=Digi-Key; ComponentLink4Description: https://datasheet.ciiva.com/1803/lmv324-1803155.pdf?src-supplier=Digi-Key; ComponentLink5URL: https://datasheet.ciiva.com/2973/lmv358-2973572.pdf?src-supplier=Avnet; ComponentLink5Description: https://datasheet.ciiva.com/2973/lmv358-2973572.pdf?src-supplier=Avnet; ComponentLink6URL: https://datasheet.ciiva.com/2973/lmv358-2973571.pdf?src-supplier=Avnet; ComponentLink6Description: https://datasheet.ciiva.com/2973/lmv358-2973571.pdf?src-supplier=Avnet; Supplier Part Number 1: 296-9569-6-ND
footprint D0014A_V (SOIC, 14-Leads, Body 8.75x4mm, Pitch 1.27mm)
part A pins: 1 1OUT (out), 2 1IN- (in), 3 1IN+ (in), 4 VCC+ (power), 11 GND (power)
part B pins: 5 1IN+ (in), 6 1IN- (in), 7 1OUT (out)
part C pins: 8 1OUT (out), 9 1IN- (in), 10 1IN+ (in)
part D pins: 12 1IN+ (in), 13 1IN- (in), 14 1OUT (out)

## LQM21PN2R2MC0D
designator L?, comment 2.2uH
0805 2.2uH ±20% DCR=340mΩ 600mA SRF=50MHz; Manufacturer: Murata; Manufacturer Part Number: LQM21PN2R2MC0D; Core Material: Ferrite; Shielding: Shielded; DC Resistance (DCR): 340mR; Test Frequency: 1MHz; Self Resonant Frequency: 50MHz; RoHS: Yes; Category: Fixed Inductors; Pricing 1: 1=0.24000, 10=0.21400, 25=0.18760, 50=0.16060, 100=0.14730, 250=0.13388, 500=0.12584, 1000=0.09639 (USD); Mount: Surface Mount; Case/Package: 0805; Case Code (Metric): 2012; Case Code (Imperial): 0805; Min Operating Temperature: -55°C; Max Operating Temperature: 125°C; Package Quantity: 4000; Current Rating: 600mA; Tolerance: 20%; Packaging: Tape and Reel; Max DC Current: 600mA; Termination: SMD/SMT; DC Current: 600mA; Series: LQM21PN_CO; Inductance Tolerance: 20%; Rated Current-Max: 600mA; Length: 2mm; Width: 0.049inch; Height: 0.5mm; Height - Seated (Max): 0.022inch; Depth: 1.45mm; Radiation Hardening: No; RoHS Compliant: Yes; Lead Free: Lead Free; Military Standard: Not; REACH SVHC: No SVHC; ComponentLink1URL: https://datasheet.ciiva.com/30490/0900766b81256150-30490215.pdf?src-supplier=RSComponents; ComponentLink1Description: https://datasheet.ciiva.com/30490/0900766b81256150-30490215.pdf?src-supplier=RSComponents; ComponentLink2URL: https://datasheet.ciiva.com/16456/l0075s0104lqm21p-c0-16456044.pdf?src-supplier=Future+Electronics; ComponentLink2Description: https://datasheet.ciiva.com/16456/l0075s0104lqm21p-c0-16456044.pdf?src-supplier=Future+Electronics; Supplier Part Number 1: 490-4994-1-ND; Stock 1: 52990; Supplier 1: Digi-Key; Inductance: 2.2uH
footprint FP-C0805C-DN-IPC_A
pins: 1, 2

## LQW2BAN30NG00L
designator L?, comment 30nH
Inductor RF Chip Unshielded Wirewound 0.03uH 2% 250MHz 80Q-Factor Non Magnetic 2A 0.08Ohm DCR 0805 T/R; Manufacturer: Murata; Manufacturer Part Number: LQW2BAN30NG00L; Core Material: Non-Magnetic; DC Resistance (DCR): 80mR; Self Resonant Frequency: 2GHz; Supplier 1: Digi-Key; RoHS: Yes; Category: Fixed Inductors; Stock 1: 1915; Pricing 1: 1=0.53000, 10=0.46500, 25=0.43240, 50=0.36580, 100=0.33250, 250=0.31252, 500=0.27928, 1000=0.22608 (USD); Mount: Surface Mount; Case/Package: 0805; Min Operating Temperature: -55°C; Max Operating Temperature: 125°C; Packaging: Cut Tape; Inductance: 30nH; Tolerance: 2%; Test Frequency: 250MHz; Resistor Type: Wirewound; Shielding: Unshielded; Current Rating: 2A; RoHS Compliant: Yes; ComponentLink1URL: http://search.murata.co.jp/Ceramy/image/img/P02/JELF243A-0115.pdf?src-supplier=Digi-Key; ComponentLink1Description: http://search.murata.co.jp/Ceramy/image/img/P02/JELF243A-0115.pdf?src-supplier=Digi-Key; ComponentLink2URL: https://search.murata.co.jp/Ceramy/image/img/P02/JELF243A-0115.pdf?src-supplier=Digi-Key; ComponentLink2Description: https://search.murata.co.jp/Ceramy/image/img/P02/JELF243A-0115.pdf?src-supplier=Digi-Key; Supplier Part Number 1: 490-16033-1-ND
footprint FP-C0805C-DN-IPC_A
pins: 1, 2

## LQW2BAS6N8J00L
designator L?, comment 6.8nH
Ind RF Chip Wirewound 6.8nH 5% 250MHz 50Q-Factor 600mA 0805 Embossed T/R; Manufacturer: Murata; Manufacturer Part Number: LQW2BAS6N8J00L; Core Material: Air; Self Resonant Frequency: 5.6GHz; DC Resistance (DCR): 110mR; Shielding: Unshielded; Q Factor: 50; Supplier 1: Digi-Key; RoHS: Yes; Category: Fixed Inductors; Stock 1: 1781; Pricing 1: 1=0.25000, 10=0.22800, 25=0.20240, 50=0.17200, 100=0.15180, 250=0.13916, 500=0.12650, 1000=0.10626 (USD); Mount: Surface Mount; Case/Package: 0805; Case Code (Metric): 2015; Case Code (Imperial): 0806; Weight: 0.000494oz; Min Operating Temperature: -55°C; Max Operating Temperature: 125°C; Current Rating: 600mA; Packaging: Tape and Reel; Inductance: 6.8nH; Test Frequency: 250MHz; Max DC Current: 600mA; Series: LQW2BA; Termination: SMD/SMT; Resistor Type: Wirewound; Package Quantity: 2000; Tolerance: 5%; Length: 0.082inch; Width: 0.06inch; Height: 1.42mm; Depth: 1.73mm; Height - Seated (Max): 0.06inch; Radiation Hardening: No; RoHS Compliant: Yes; ComponentLink1URL: https://datasheet.ciiva.com/1044/l0075s0080lqw2ba-1044704.pdf?src-supplier=Digi-Key; ComponentLink1Description: https://datasheet.ciiva.com/1044/l0075s0080lqw2ba-1044704.pdf?src-supplier=Digi-Key; ComponentLink2URL: https://datasheet.ciiva.com/1044/l0075s0080lqw2ba-1044703.pdf?src-supplier=Digi-Key; ComponentLink2Description: https://datasheet.ciiva.com/1044/l0075s0080lqw2ba-1044703.pdf?src-supplier=Digi-Key; ComponentLink3URL: https://datasheet.ciiva.com/1044/l0075s0080lqw2ba-1044705.pdf?src-supplier=Digi-Key; ComponentLink3Description: https://datasheet.ciiva.com/1044/l0075s0080lqw2ba-1044705.pdf?src-supplier=Digi-Key; ComponentLink4URL: https://datasheet.ciiva.com/3080/l0075s0080lqw2ba-3080328.pdf?src-supplier=Avnet; ComponentLink4Description: https://datasheet.ciiva.com/3080/l0075s0080lqw2ba-3080328.pdf?src-supplier=Avnet; Supplier Part Number 1: 490-5645-1-ND
footprint FP-C0805C-DN-IPC_A
pins: 1, 2

## LQW2BAS27NJ00L
designator L?, comment 27nH
Ind RF Chip Wirewound 27nH 0.5A ±5% 0805; Manufacturer: Murata; Manufacturer Part Number: LQW2BAS27NJ00L; Core Material: Air,Non-Magnetic; Self Resonant Frequency: 2.58GHz; Current Rating: 500mA; DC Resistance (DCR): 250mR; Test Frequency: 250MHz; Q Factor: 55; Shielding: Unshielded; Supplier 1: Digi-Key; RoHS: Yes; Category: Fixed Inductors; Stock 1: 2095; Pricing 1: 1=0.25000, 10=0.22800, 25=0.20240, 50=0.17200, 100=0.15180, 250=0.13916, 500=0.12650, 1000=0.10626 (USD); Mount: Surface Mount; Case/Package: 0805; Case Code (Metric): 2015; Case Code (Imperial): 0806; Weight: 0.000494oz; Min Operating Temperature: -55°C; Max Operating Temperature: 125°C; Packaging: Tape and Reel; Inductance: 27nH; Max DC Current: 500mA; Series: LQW; Tolerance: 5%; Package Quantity: 2000; Termination: SMD/SMT; Resistor Type: Wirewound; DC Current: 500mA; Length: 0.082inch; Width: 1.5mm; Height: 1.42mm; Depth: 1.73mm; Height - Seated (Max): 0.06inch; Radiation Hardening: No; Military Standard: Not; RoHS Compliant: Yes; ComponentLink1URL: https://datasheet.ciiva.com/1044/l0075s0080lqw2ba-1044713.pdf?src-supplier=Digi-Key; ComponentLink1Description: https://datasheet.ciiva.com/1044/l0075s0080lqw2ba-1044713.pdf?src-supplier=Digi-Key; ComponentLink2URL: https://datasheet.ciiva.com/1044/l0075s0080lqw2ba-1044712.pdf?src-supplier=Digi-Key; ComponentLink2Description: https://datasheet.ciiva.com/1044/l0075s0080lqw2ba-1044712.pdf?src-supplier=Digi-Key; ComponentLink3URL: https://datasheet.ciiva.com/1044/l0075s0080lqw2ba-1044714.pdf?src-supplier=Digi-Key; ComponentLink3Description: https://datasheet.ciiva.com/1044/l0075s0080lqw2ba-1044714.pdf?src-supplier=Digi-Key; ComponentLink4URL: https://datasheet.ciiva.com/3080/l0075s0080lqw2ba-3080317.pdf?src-supplier=Avnet; ComponentLink4Description: https://datasheet.ciiva.com/3080/l0075s0080lqw2ba-3080317.pdf?src-supplier=Avnet; Supplier Part Number 1: 490-5654-1-ND
footprint FP-C0805C-DN-IPC_A
pins: 1, 2

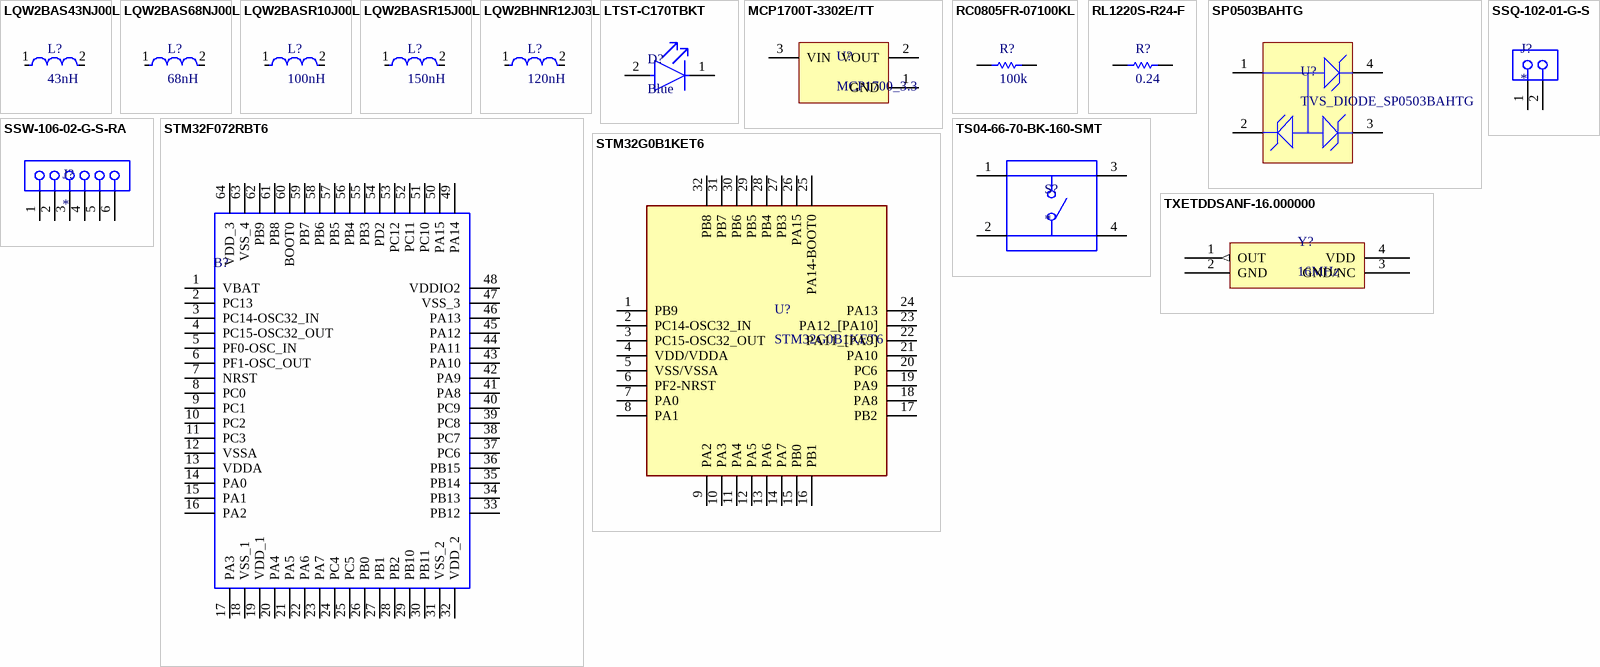
[diagram p1: symbols LQW2BAS43NJ00L to TXETDDSANF-16.000000]

## LQW2BAS43NJ00L
designator L?, comment 43nH
Ind RF Chip Wirewound 43nH 5% 200MHz 60Q-Factor 500mA 0805 Embossed T/R; Manufacturer: Murata; Manufacturer Part Number: LQW2BAS43NJ00L; Core Material: Air; Self Resonant Frequency: 1.8GHz; DC Resistance (DCR): 340mR; Q Factor: 60; Shielding: Unshielded; Supplier 1: Digi-Key; RoHS: Yes; Category: Fixed Inductors; Stock 1: 3838; Pricing 1: 1=0.25000, 10=0.22800, 25=0.20240, 50=0.17200, 100=0.15180, 250=0.13916, 500=0.12650, 1000=0.10626 (USD); Mount: Surface Mount; Case/Package: 0805; Weight: 0.000494oz; Case Code (Metric): 2015; Case Code (Imperial): 0805; Min Operating Temperature: -55°C; Max Operating Temperature: 125°C; Packaging: Tape and Reel; Inductance: 43nH; Tolerance: 5%; Series: LQW2BA; Current Rating: 500mA; Test Frequency: 200MHz; Max DC Current: 500mA; Package Quantity: 2000; Termination: SMD/SMT; Resistor Type: Wirewound; DC Current: 500mA; Length: 0.082inch; Width: 0.06inch; Height: 1.42mm; Height - Seated (Max): 0.06inch; Depth: 1.73mm; Radiation Hardening: No; RoHS Compliant: Yes; Military Standard: Not; ComponentLink1URL: https://datasheet.ciiva.com/1044/l0075s0080lqw2ba-1044718.pdf?src-supplier=Digi-Key; ComponentLink1Description: https://datasheet.ciiva.com/1044/l0075s0080lqw2ba-1044718.pdf?src-supplier=Digi-Key; ComponentLink2URL: https://datasheet.ciiva.com/1044/l0075s0080lqw2ba-1044719.pdf?src-supplier=Digi-Key; ComponentLink2Description: https://datasheet.ciiva.com/1044/l0075s0080lqw2ba-1044719.pdf?src-supplier=Digi-Key; ComponentLink3URL: https://datasheet.ciiva.com/1044/l0075s0080lqw2ba-1044720.pdf?src-supplier=Digi-Key; ComponentLink3Description: https://datasheet.ciiva.com/1044/l0075s0080lqw2ba-1044720.pdf?src-supplier=Digi-Key; ComponentLink4URL: https://datasheet.ciiva.com/3080/l0075s0080lqw2ba-3080323.pdf?src-supplier=Avnet; ComponentLink4Description: https://datasheet.ciiva.com/3080/l0075s0080lqw2ba-3080323.pdf?src-supplier=Avnet; Supplier Part Number 1: 490-5658-1-ND
footprint FP-C0805C-DN-IPC_A
pins: 1, 2

## LQW2BAS68NJ00L
designator L?, comment 68nH
Ind RF Chip Wirewound 68nH 5% 200MHz 60Q-Factor 500mA 0805 Embossed T/R; Manufacturer: Murata; Manufacturer Part Number: LQW2BAS68NJ00L; Core Material: Air,Non-Magnetic; Self Resonant Frequency: 1.5GHz; DC Resistance (DCR): 380mR; Q Factor: 60; Shielding: Unshielded; Supplier 1: Digi-Key; RoHS: Yes; Category: Fixed Inductors; Stock 1: 1897; Pricing 1: 1=0.25000, 10=0.22800, 25=0.20240, 50=0.17200, 100=0.15180, 250=0.13916, 500=0.12650, 1000=0.10626 (USD); Mount: Surface Mount; Case/Package: 0805; Case Code (Metric): 2015; Case Code (Imperial): 0805; Weight: 0.000494oz; Min Operating Temperature: -55°C; Max Operating Temperature: 125°C; Packaging: Tape and Reel; Inductance: 68nH; Test Frequency: 200MHz; Max DC Current: 500mA; Series: LQW; Tolerance: 5%; Package Quantity: 2000; Current Rating: 500mA; Termination: SMD/SMT; Resistor Type: Wirewound; DC Current: 500mA; Length: 0.082inch; Width: 0.06inch; Height: 1.42mm; Depth: 1.73mm; Height - Seated (Max): 0.06inch; Radiation Hardening: No; RoHS Compliant: Yes; Military Standard: Not; Lead Free: Lead Free; ComponentLink1URL: https://datasheet.ciiva.com/1044/l0075s0080lqw2ba-1044766.pdf?src-supplier=Digi-Key; ComponentLink1Description: https://datasheet.ciiva.com/1044/l0075s0080lqw2ba-1044766.pdf?src-supplier=Digi-Key; ComponentLink2URL: https://datasheet.ciiva.com/1044/l0075s0080lqw2ba-1044767.pdf?src-supplier=Digi-Key; ComponentLink2Description: https://datasheet.ciiva.com/1044/l0075s0080lqw2ba-1044767.pdf?src-supplier=Digi-Key; ComponentLink3URL: https://datasheet.ciiva.com/1044/l0075s0080lqw2ba-1044768.pdf?src-supplier=Digi-Key; ComponentLink3Description: https://datasheet.ciiva.com/1044/l0075s0080lqw2ba-1044768.pdf?src-supplier=Digi-Key; ComponentLink4URL: https://datasheet.ciiva.com/3080/l0075s0080lqw2ba-3080327.pdf?src-supplier=Avnet; ComponentLink4Description: https://datasheet.ciiva.com/3080/l0075s0080lqw2ba-3080327.pdf?src-supplier=Avnet; ComponentLink5URL: https://datasheet.ciiva.com/16448/l0075s0080lqw2ba-16448937.pdf?src-supplier=Future+Electronics; ComponentLink5Description: https://datasheet.ciiva.com/16448/l0075s0080lqw2ba-16448937.pdf?src-supplier=Future+Electronics; Supplier Part Number 1: 490-5661-1-ND
footprint FP-C0805C-DN-IPC_A
pins: 1, 2

## LQW2BASR10J00L
designator L?, comment 100nH
Ind RF Chip Wirewound 100nH 5% 150MHz 65Q-Factor 400mA 0805 Embossed T/R; Manufacturer: Murata; Manufacturer Part Number: LQW2BASR10J00L; Core Material: Air; Shielding: Unshielded; DC Resistance (DCR): 460mR; Self Resonant Frequency: 1.25GHz; Q Factor: 65; Supplier 1: Digi-Key; RoHS: Yes; Category: Fixed Inductors; Stock 1: 1394; Pricing 1: 1=0.25000, 10=0.22800, 25=0.20240, 50=0.17200, 100=0.15180, 250=0.13916, 500=0.12650, 1000=0.10626 (USD); Mount: Surface Mount; Case/Package: 0805; Case Code (Metric): 2015; Case Code (Imperial): 0806; Weight: 0.000494oz; Min Operating Temperature: -55°C; Max Operating Temperature: 125°C; Tolerance: 5%; Packaging: Tape and Reel; Inductance: 100nH; Test Frequency: 150MHz; Package Quantity: 2000; Current Rating: 400mA; Max DC Current: 400mA; Series: LQW2BA; Termination: SMD/SMT; Resistor Type: Wirewound; Length: 0.082inch; Width: 1.5mm; Height: 1.42mm; Height - Seated (Max): 0.06inch; Depth: 1.73mm; Radiation Hardening: No; RoHS Compliant: Yes; ComponentLink1URL: https://datasheet.ciiva.com/4975/l0075s0080lqw2ba-125197-4975968.pdf?src-supplier=Mouser; ComponentLink1Description: https://datasheet.ciiva.com/4975/l0075s0080lqw2ba-125197-4975968.pdf?src-supplier=Mouser; ComponentLink2URL: https://datasheet.ciiva.com/1044/l0075s0080lqw2ba-1044724.pdf?src-supplier=Digi-Key; ComponentLink2Description: https://datasheet.ciiva.com/1044/l0075s0080lqw2ba-1044724.pdf?src-supplier=Digi-Key; ComponentLink3URL: https://datasheet.ciiva.com/1044/l0075s0080lqw2ba-1044725.pdf?src-supplier=Digi-Key; ComponentLink3Description: https://datasheet.ciiva.com/1044/l0075s0080lqw2ba-1044725.pdf?src-supplier=Digi-Key; ComponentLink4URL: https://datasheet.ciiva.com/1044/l0075s0080lqw2ba-1044726.pdf?src-supplier=Digi-Key; ComponentLink4Description: https://datasheet.ciiva.com/1044/l0075s0080lqw2ba-1044726.pdf?src-supplier=Digi-Key; ComponentLink5URL: https://datasheet.ciiva.com/3080/l0075s0080lqw2ba-3080333.pdf?src-supplier=Avnet; ComponentLink5Description: https://datasheet.ciiva.com/3080/l0075s0080lqw2ba-3080333.pdf?src-supplier=Avnet; Supplier Part Number 1: 490-5664-1-ND
footprint FP-C0805C-DN-IPC_A
pins: 1, 2

## LQW2BASR15J00L
designator L?, comment 150nH
Ind RF Chip Wirewound 150nH 5% 100MHz 50Q-Factor 400mA 0805 Embossed T/R; Manufacturer: Murata; Manufacturer Part Number: LQW2BASR15J00L; Core Material: Air; Shielding: Unshielded; Self Resonant Frequency: 920MHz; DC Resistance (DCR): 560mR; Q Factor: 50; Supplier 1: Digi-Key; RoHS: Yes; Category: Fixed Inductors; Stock 1: 10064; Pricing 1: 1=0.25000, 10=0.22800, 25=0.20240, 50=0.17200, 100=0.15180, 250=0.13916, 500=0.12650, 1000=0.10626 (USD); Mount: Surface Mount; Case/Package: 0805; Case Code (Metric): 2015; Case Code (Imperial): 0806; Weight: 0.000494oz; Min Operating Temperature: -55°C; Max Operating Temperature: 125°C; Tolerance: 5%; Packaging: Tape and Reel; Inductance: 150nH; Package Quantity: 2000; Current Rating: 400mA; Test Frequency: 100MHz; Max DC Current: 400mA; Series: LQW2BA; Termination: SMD/SMT; Resistor Type: Wirewound; DC Current: 400mA; Length: 0.082inch; Width: 0.06inch; Height: 1.42mm; Height - Seated (Max): 0.06inch; Depth: 1.73mm; Radiation Hardening: No; RoHS Compliant: Yes; Military Standard: Not; ComponentLink1URL: https://datasheet.ciiva.com/1056/l0075s0080lqw2ba-1056256.pdf?src-supplier=Digi-Key; ComponentLink1Description: https://datasheet.ciiva.com/1056/l0075s0080lqw2ba-1056256.pdf?src-supplier=Digi-Key; ComponentLink2URL: https://datasheet.ciiva.com/1056/l0075s0080lqw2ba-1056257.pdf?src-supplier=Digi-Key; ComponentLink2Description: https://datasheet.ciiva.com/1056/l0075s0080lqw2ba-1056257.pdf?src-supplier=Digi-Key; ComponentLink3URL: https://datasheet.ciiva.com/1056/l0075s0080lqw2ba-1056258.pdf?src-supplier=Digi-Key; ComponentLink3Description: https://datasheet.ciiva.com/1056/l0075s0080lqw2ba-1056258.pdf?src-supplier=Digi-Key; ComponentLink4URL: https://datasheet.ciiva.com/3080/l0075s0080lqw2ba-3080336.pdf?src-supplier=Avnet; ComponentLink4Description: https://datasheet.ciiva.com/3080/l0075s0080lqw2ba-3080336.pdf?src-supplier=Avnet; Supplier Part Number 1: 490-5667-1-ND
footprint FP-C0805C-DN-IPC_A
pins: 1, 2